# Altium integrated library NEC Microcontroller 8-Bit.IntLib: 15 symbols
Pins are listed as number, name and electrical type; pins without a type are passive.

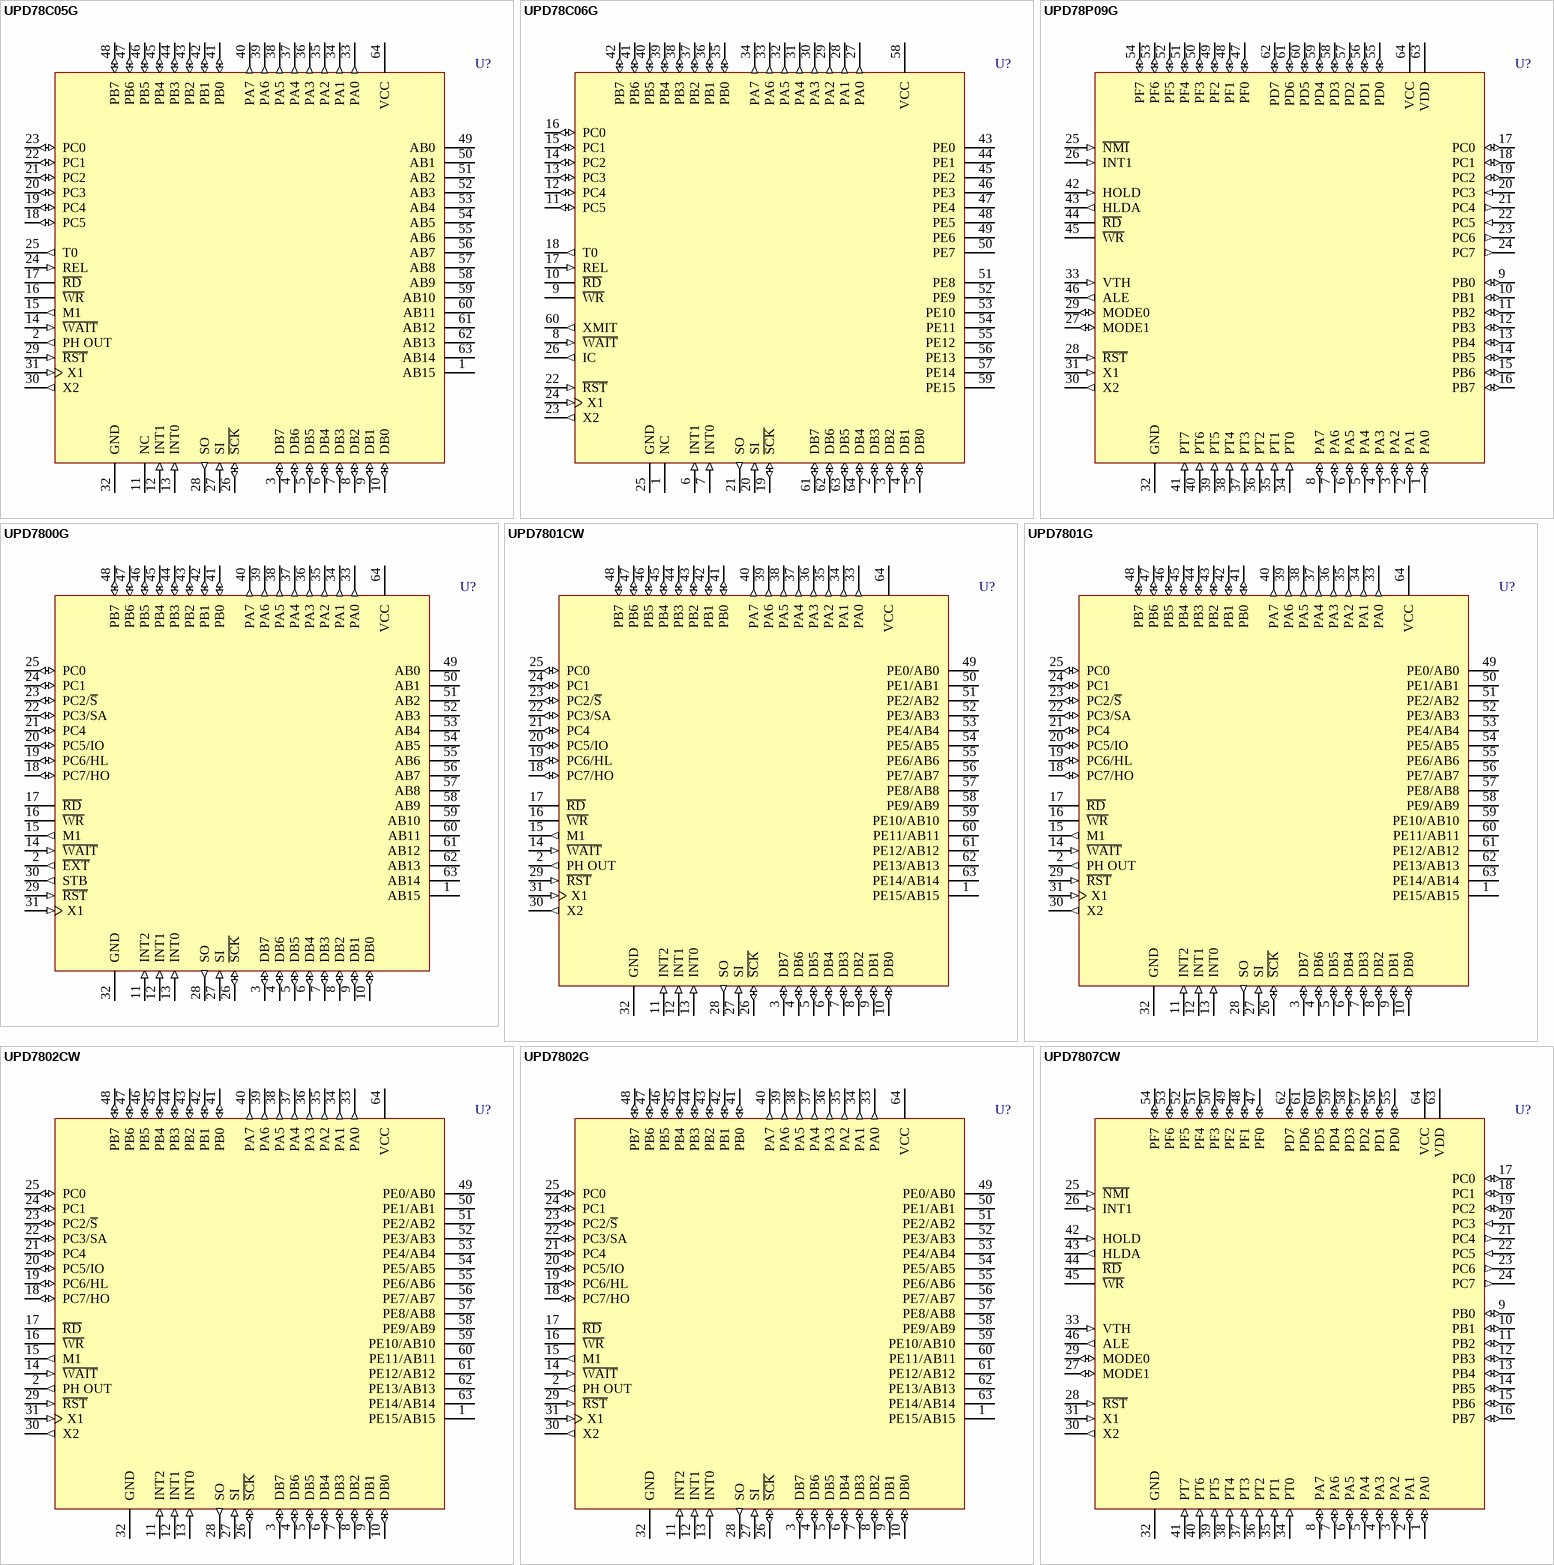
[diagram p0: symbols UPD78C05G to UPD7807CW]

## UPD78C05G
designator U?
CMOS High-End 8-Bit Single-Chip Microcomputer; Published: 8-Jun-2000; LatestRevisionDate: 17-Jul-2002; LatestRevisionNote: Re-released for DXP Platform.; DatasheetVersion: 1984; PackageVersion: 1984; PackageReference: PQUIL64; Publisher: Altium Limited; PackageDescription: QUIP; 64 Leads, in two Staggered Rows, each of 2.54 mm pitch; ComponentLink1Description: Manufacturer Link; ComponentLink1URL: http://www.necel.com/
footprint PQUIL64 (QUIP; 64 Leads, in two Staggered Rows, each of 19.05 mm pitch)
pins: 1 AB15 (hiz), 2 PH OUT (out), 3 DB7 (io), 4 DB6 (io), 5 DB5 (io), 6 DB4 (io), 7 DB3 (io), 8 DB2 (io), 9 DB1 (io), 10 DB0 (io), 11 NC, 12 INT1 (in), 13 INT0 (in), 14 ~{WAIT} (in), 15 M1 (out), 16 ~{WR} (hiz), 17 ~{RD} (hiz), 18 PC5 (io), 19 PC4 (io), 20 PC3 (io), 21 PC2 (io), 22 PC1 (io), 23 PC0 (io), 24 REL (in), 25 T0 (out), 26 ~{SCK} (io), 27 SI (in), 28 SO (out), 29 ~{RST} (in), 30 X2 (out), 31 X1 (in), 32 GND (power), 33 PA0 (out), 34 PA1 (out), 35 PA2 (out), 36 PA3 (out), 37 PA4 (out), 38 PA5 (out), 39 PA6 (out), 40 PA7 (out), 41 PB0 (io), 42 PB1 (io), 43 PB2 (io), 44 PB3 (io), 45 PB4 (io), 46 PB5 (io), 47 PB6 (io), 48 PB7 (io), 49 AB0 (hiz), 50 AB1 (hiz), 51 AB2 (hiz), 52 AB3 (hiz), 53 AB4 (hiz), 54 AB5 (hiz), 55 AB6 (hiz), 56 AB7 (hiz), 57 AB8 (hiz), 58 AB9 (hiz), 59 AB10 (hiz), 60 AB11 (hiz), 61 AB12 (hiz), 62 AB13 (hiz), 63 AB14 (hiz), 64 VCC (power)

## UPD78C06G
designator U?
CMOS High-End 8-Bit Single-Chip Microcomputer; Published: 8-Jun-2000; LatestRevisionDate: 13-Apr-2006; LatestRevisionNote: IPC-7351 Footprint Added.; DatasheetVersion: 1984; PackageVersion: 1983/1984; PackageReference: PMF64; Publisher: Altium Limited; PackageDescription: 64-Pin Quad Flat Pack Rectangular 1 mm Pitch; ComponentLink1Description: Manufacturer Link; ComponentLink1URL: http://www.necel.com/
footprint PMF64_N (QFP, 64-Leads, Body 20x14mm, Pitch 1mm, IPC Medium Density)
footprint PMF64_L (QFP, 64-Leads, Body 20x14mm, Pitch 1mm, IPC High Density)
footprint PMF64_M (QFP, 64-Leads, Body 20x14mm, Pitch 1mm, IPC Low Density)
pins: 1 NC, 2 DB3 (io), 3 DB2 (io), 4 DB1 (io), 5 DB0 (io), 6 INT1 (in), 7 INT0 (in), 8 ~{WAIT} (in), 9 ~{WR} (hiz), 10 ~{RD} (hiz), 11 PC5 (io), 12 PC4 (io), 13 PC3 (io), 14 PC2 (io), 15 PC1 (io), 16 PC0 (io), 17 REL (in), 18 T0 (out), 19 ~{SCK} (io), 20 SI (in), 21 SO (out), 22 ~{RST} (in), 23 X2 (out), 24 X1 (in), 25 GND (power), 26 IC (out), 27 PA0 (out), 28 PA1 (out), 29 PA2 (out), 30 PA3 (out), 31 PA4 (out), 32 PA5 (out), 33 PA6 (out), 34 PA7 (out), 35 PB0 (io), 36 PB1 (io), 37 PB2 (io), 38 PB3 (io), 39 PB4 (io), 40 PB5 (io), 41 PB6 (io), 42 PB7 (io), 43 PE0 (hiz), 44 PE1 (hiz), 45 PE2 (hiz), 46 PE3 (hiz), 47 PE4 (hiz), 48 PE5 (hiz), 49 PE6 (hiz), 50 PE7 (hiz), 51 PE8 (hiz), 52 PE9 (hiz), 53 PE10 (hiz), 54 PE11 (hiz), 55 PE12 (hiz), 56 PE13 (hiz), 57 PE14 (hiz), 58 VCC (power), 59 PE15 (hiz), 60 XMIT (out), 61 DB7 (io), 62 DB6 (io), 63 DB5 (io), 64 DB4 (io)

## UPD78P09G
designator U?
High-End Single-Chip 8-Bit Microcomputer with Comparator, 8K ROM; Note: VDD is backup power terminal for on-chip RAM.; Published: 8-Jun-2000; LatestRevisionDate: 17-Jul-2002; LatestRevisionNote: Re-released for DXP Platform.; DatasheetVersion: 1984; PackageVersion: 1984; PackageReference: PQUIL64; Publisher: Altium Limited; PackageDescription: QUIP; 64 Leads, in two Staggered Rows, each of 2.54 mm pitch; ComponentLink1Description: Manufacturer Link; ComponentLink1URL: http://www.necel.com/
footprint PQUIL64 (QUIP; 64 Leads, in two Staggered Rows, each of 19.05 mm pitch)
pins: 1 PA0 (io), 2 PA1 (io), 3 PA2 (io), 4 PA3 (io), 5 PA4 (io), 6 PA5 (io), 7 PA6 (io), 8 PA7 (io), 9 PB0 (io), 10 PB1 (io), 11 PB2 (io), 12 PB3 (io), 13 PB4 (io), 14 PB5 (io), 15 PB6 (io), 16 PB7 (io), 17 PC0 (io), 18 PC1 (io), 19 PC2 (io), 20 PC3 (in), 21 PC4 (out), 22 PC5 (in), 23 PC6 (out), 24 PC7 (out), 25 ~{NMI} (in), 26 INT1 (in), 27 MODE1 (io), 28 ~{RST} (in), 29 MODE0 (io), 30 X2 (out), 31 X1 (in), 32 GND (power), 33 VTH (in), 34 PT0 (in), 35 PT1 (in), 36 PT2 (in), 37 PT3 (in), 38 PT4 (in), 39 PT5 (in), 40 PT6 (in), 41 PT7 (in), 42 HOLD (in), 43 HLDA (out), 44 ~{RD} (hiz), 45 ~{WR} (hiz), 46 ALE (out), 47 PF0 (io), 48 PF1 (io), 49 PF2 (io), 50 PF3 (io), 51 PF4 (io), 52 PF5 (io), 53 PF6 (io), 54 PF7 (io), 55 PD0 (io), 56 PD1 (io), 57 PD2 (io), 58 PD3 (io), 59 PD4 (io), 60 PD5 (io), 61 PD6 (io), 62 PD7 (io), 63 VDD (power), 64 VCC (power)

## UPD7800G
designator U?
High-End Single-Chip 8-Bit Microcomputer ROM-Less Developement Device; Published: 8-Jun-2000; LatestRevisionDate: 17-Jul-2002; LatestRevisionNote: Re-released for DXP Platform.; DatasheetVersion: 1984; PackageVersion: 1984; PackageReference: PQUIL64; Publisher: Altium Limited; PackageDescription: QUIP; 64 Leads, in two Staggered Rows, each of 2.54 mm pitch; ComponentLink1Description: Manufacturer Link; ComponentLink1URL: http://www.necel.com/
footprint PQUIL64 (QUIP; 64 Leads, in two Staggered Rows, each of 19.05 mm pitch)
pins: 1 AB15 (hiz), 2 ~{EXT} (out), 3 DB7 (io), 4 DB6 (io), 5 DB5 (io), 6 DB4 (io), 7 DB3 (io), 8 DB2 (io), 9 DB1 (io), 10 DB0 (io), 11 INT2 (in), 12 INT1 (in), 13 INT0 (in), 14 ~{WAIT} (in), 15 M1 (out), 16 ~{WR} (hiz), 17 ~{RD} (hiz), 18 PC7/HO (io), 19 PC6/HL (io), 20 PC5/IO (io), 21 PC4 (io), 22 PC3/SA (io), 23 PC2/~{S} (io), 24 PC1 (io), 25 PC0 (io), 26 ~{SCK} (io), 27 SI (in), 28 SO (out), 29 ~{RST} (in), 30 STB (out), 31 X1 (in), 32 GND (power), 33 PA0 (out), 34 PA1 (out), 35 PA2 (out), 36 PA3 (out), 37 PA4 (out), 38 PA5 (out), 39 PA6 (out), 40 PA7 (out), 41 PB0 (io), 42 PB1 (io), 43 PB2 (io), 44 PB3 (io), 45 PB4 (io), 46 PB5 (io), 47 PB6 (io), 48 PB7 (io), 49 AB0 (hiz), 50 AB1 (hiz), 51 AB2 (hiz), 52 AB3 (hiz), 53 AB4 (hiz), 54 AB5 (hiz), 55 AB6 (hiz), 56 AB7 (hiz), 57 AB8 (hiz), 58 AB9 (hiz), 59 AB10 (hiz), 60 AB11 (hiz), 61 AB12 (hiz), 62 AB13 (hiz), 63 AB14 (hiz), 64 VCC (power)

## UPD7801CW
designator U?
High-End Single-Chip 8-Bit Microcomputer with 4K ROM; Published: 8-Jun-2000; LatestRevisionDate: 17-Jul-2002; LatestRevisionNote: Re-released for DXP Platform.; DatasheetVersion: 1984; PackageVersion: 1984; PackageReference: PSDIP64; Publisher: Altium Limited; PackageDescription: DIP; 64 Leads; Row Spacing 19.05 mm; Pitch 1.778 mm; ComponentLink1Description: Manufacturer Link; ComponentLink1URL: http://www.necel.com/
footprint PSDIP64 (DIP; 64 Leads; Row Spacing 19.05 mm; Pitch 1.778 mm)
pins: 1 PE15/AB15 (hiz), 2 PH OUT (out), 3 DB7 (io), 4 DB6 (io), 5 DB5 (io), 6 DB4 (io), 7 DB3 (io), 8 DB2 (io), 9 DB1 (io), 10 DB0 (io), 11 INT2 (in), 12 INT1 (in), 13 INT0 (in), 14 ~{WAIT} (in), 15 M1 (out), 16 ~{WR} (hiz), 17 ~{RD} (hiz), 18 PC7/HO (io), 19 PC6/HL (io), 20 PC5/IO (io), 21 PC4 (io), 22 PC3/SA (io), 23 PC2/~{S} (io), 24 PC1 (io), 25 PC0 (io), 26 ~{SCK} (io), 27 SI (in), 28 SO (out), 29 ~{RST} (in), 30 X2 (out), 31 X1 (in), 32 GND (power), 33 PA0 (out), 34 PA1 (out), 35 PA2 (out), 36 PA3 (out), 37 PA4 (out), 38 PA5 (out), 39 PA6 (out), 40 PA7 (out), 41 PB0 (io), 42 PB1 (io), 43 PB2 (io), 44 PB3 (io), 45 PB4 (io), 46 PB5 (io), 47 PB6 (io), 48 PB7 (io), 49 PE0/AB0 (hiz), 50 PE1/AB1 (hiz), 51 PE2/AB2 (hiz), 52 PE3/AB3 (hiz), 53 PE4/AB4 (hiz), 54 PE5/AB5 (hiz), 55 PE6/AB6 (hiz), 56 PE7/AB7 (hiz), 57 PE8/AB8 (hiz), 58 PE9/AB9 (hiz), 59 PE10/AB10 (hiz), 60 PE11/AB11 (hiz), 61 PE12/AB12 (hiz), 62 PE13/AB13 (hiz), 63 PE14/AB14 (hiz), 64 VCC (power)

## UPD7801G
designator U?
High-End Single-Chip 8-Bit Microcomputer with 4K ROM; Published: 8-Jun-2000; LatestRevisionDate: 17-Jul-2002; LatestRevisionNote: Re-released for DXP Platform.; DatasheetVersion: 1984; PackageVersion: 1984; PackageReference: PQUIL64; Publisher: Altium Limited; PackageDescription: QUIP; 64 Leads, in two Staggered Rows, each of 2.54 mm pitch; ComponentLink1Description: Manufacturer Link; ComponentLink1URL: http://www.necel.com/
footprint PQUIL64 (QUIP; 64 Leads, in two Staggered Rows, each of 19.05 mm pitch)
pins: 1 PE15/AB15 (hiz), 2 PH OUT (out), 3 DB7 (io), 4 DB6 (io), 5 DB5 (io), 6 DB4 (io), 7 DB3 (io), 8 DB2 (io), 9 DB1 (io), 10 DB0 (io), 11 INT2 (in), 12 INT1 (in), 13 INT0 (in), 14 ~{WAIT} (in), 15 M1 (out), 16 ~{WR} (hiz), 17 ~{RD} (hiz), 18 PC7/HO (io), 19 PC6/HL (io), 20 PC5/IO (io), 21 PC4 (io), 22 PC3/SA (io), 23 PC2/~{S} (io), 24 PC1 (io), 25 PC0 (io), 26 ~{SCK} (io), 27 SI (in), 28 SO (out), 29 ~{RST} (in), 30 X2 (out), 31 X1 (in), 32 GND (power), 33 PA0 (out), 34 PA1 (out), 35 PA2 (out), 36 PA3 (out), 37 PA4 (out), 38 PA5 (out), 39 PA6 (out), 40 PA7 (out), 41 PB0 (io), 42 PB1 (io), 43 PB2 (io), 44 PB3 (io), 45 PB4 (io), 46 PB5 (io), 47 PB6 (io), 48 PB7 (io), 49 PE0/AB0 (hiz), 50 PE1/AB1 (hiz), 51 PE2/AB2 (hiz), 52 PE3/AB3 (hiz), 53 PE4/AB4 (hiz), 54 PE5/AB5 (hiz), 55 PE6/AB6 (hiz), 56 PE7/AB7 (hiz), 57 PE8/AB8 (hiz), 58 PE9/AB9 (hiz), 59 PE10/AB10 (hiz), 60 PE11/AB11 (hiz), 61 PE12/AB12 (hiz), 62 PE13/AB13 (hiz), 63 PE14/AB14 (hiz), 64 VCC (power)

## UPD7802CW
designator U?
High-End Single-Chip 8-Bit Microcomputer with 4K ROM; Published: 8-Jun-2000; LatestRevisionDate: 17-Jul-2002; LatestRevisionNote: Re-released for DXP Platform.; DatasheetVersion: 1984; PackageVersion: 1984; PackageReference: PSDIP64; Publisher: Altium Limited; PackageDescription: DIP; 64 Leads; Row Spacing 19.05 mm; Pitch 1.778 mm; ComponentLink1Description: Manufacturer Link; ComponentLink1URL: http://www.necel.com/
footprint PSDIP64 (DIP; 64 Leads; Row Spacing 19.05 mm; Pitch 1.778 mm)
pins: 1 PE15/AB15 (hiz), 2 PH OUT (out), 3 DB7 (io), 4 DB6 (io), 5 DB5 (io), 6 DB4 (io), 7 DB3 (io), 8 DB2 (io), 9 DB1 (io), 10 DB0 (io), 11 INT2 (in), 12 INT1 (in), 13 INT0 (in), 14 ~{WAIT} (in), 15 M1 (out), 16 ~{WR} (hiz), 17 ~{RD} (hiz), 18 PC7/HO (io), 19 PC6/HL (io), 20 PC5/IO (io), 21 PC4 (io), 22 PC3/SA (io), 23 PC2/~{S} (io), 24 PC1 (io), 25 PC0 (io), 26 ~{SCK} (io), 27 SI (in), 28 SO (out), 29 ~{RST} (in), 30 X2 (out), 31 X1 (in), 32 GND (power), 33 PA0 (out), 34 PA1 (out), 35 PA2 (out), 36 PA3 (out), 37 PA4 (out), 38 PA5 (out), 39 PA6 (out), 40 PA7 (out), 41 PB0 (io), 42 PB1 (io), 43 PB2 (io), 44 PB3 (io), 45 PB4 (io), 46 PB5 (io), 47 PB6 (io), 48 PB7 (io), 49 PE0/AB0 (hiz), 50 PE1/AB1 (hiz), 51 PE2/AB2 (hiz), 52 PE3/AB3 (hiz), 53 PE4/AB4 (hiz), 54 PE5/AB5 (hiz), 55 PE6/AB6 (hiz), 56 PE7/AB7 (hiz), 57 PE8/AB8 (hiz), 58 PE9/AB9 (hiz), 59 PE10/AB10 (hiz), 60 PE11/AB11 (hiz), 61 PE12/AB12 (hiz), 62 PE13/AB13 (hiz), 63 PE14/AB14 (hiz), 64 VCC (power)

## UPD7802G
designator U?
High-End Single-Chip 8-Bit Microcomputer with 4K ROM; Published: 8-Jun-2000; LatestRevisionDate: 17-Jul-2002; LatestRevisionNote: Re-released for DXP Platform.; DatasheetVersion: 1984; PackageVersion: 1984; PackageReference: PQUIL64; Publisher: Altium Limited; PackageDescription: QUIP; 64 Leads, in two Staggered Rows, each of 2.54 mm pitch; ComponentLink1Description: Manufacturer Link; ComponentLink1URL: http://www.necel.com/
footprint PQUIL64 (QUIP; 64 Leads, in two Staggered Rows, each of 19.05 mm pitch)
pins: 1 PE15/AB15 (hiz), 2 PH OUT (out), 3 DB7 (io), 4 DB6 (io), 5 DB5 (io), 6 DB4 (io), 7 DB3 (io), 8 DB2 (io), 9 DB1 (io), 10 DB0 (io), 11 INT2 (in), 12 INT1 (in), 13 INT0 (in), 14 ~{WAIT} (in), 15 M1 (out), 16 ~{WR} (hiz), 17 ~{RD} (hiz), 18 PC7/HO (io), 19 PC6/HL (io), 20 PC5/IO (io), 21 PC4 (io), 22 PC3/SA (io), 23 PC2/~{S} (io), 24 PC1 (io), 25 PC0 (io), 26 ~{SCK} (io), 27 SI (in), 28 SO (out), 29 ~{RST} (in), 30 X2 (out), 31 X1 (in), 32 GND (power), 33 PA0 (out), 34 PA1 (out), 35 PA2 (out), 36 PA3 (out), 37 PA4 (out), 38 PA5 (out), 39 PA6 (out), 40 PA7 (out), 41 PB0 (io), 42 PB1 (io), 43 PB2 (io), 44 PB3 (io), 45 PB4 (io), 46 PB5 (io), 47 PB6 (io), 48 PB7 (io), 49 PE0/AB0 (hiz), 50 PE1/AB1 (hiz), 51 PE2/AB2 (hiz), 52 PE3/AB3 (hiz), 53 PE4/AB4 (hiz), 54 PE5/AB5 (hiz), 55 PE6/AB6 (hiz), 56 PE7/AB7 (hiz), 57 PE8/AB8 (hiz), 58 PE9/AB9 (hiz), 59 PE10/AB10 (hiz), 60 PE11/AB11 (hiz), 61 PE12/AB12 (hiz), 62 PE13/AB13 (hiz), 63 PE14/AB14 (hiz), 64 VCC (power)

## UPD7807CW
designator U?
High-End Single-Chip 8-Bit Microcomputer with Comparator, 8K ROM; Note: VDD is backup power terminal for on-chip RAM.; Published: 8-Jun-2000; LatestRevisionDate: 17-Jul-2002; LatestRevisionNote: Re-released for DXP Platform.; DatasheetVersion: 1984; PackageVersion: 1984; PackageReference: PSDIP64; Publisher: Altium Limited; PackageDescription: DIP; 64 Leads; Row Spacing 19.05 mm; Pitch 1.778 mm; ComponentLink1Description: Manufacturer Link; ComponentLink1URL: http://www.necel.com/
footprint PSDIP64 (DIP; 64 Leads; Row Spacing 19.05 mm; Pitch 1.778 mm)
pins: 1 PA0 (io), 2 PA1 (io), 3 PA2 (io), 4 PA3 (io), 5 PA4 (io), 6 PA5 (io), 7 PA6 (io), 8 PA7 (io), 9 PB0 (io), 10 PB1 (io), 11 PB2 (io), 12 PB3 (io), 13 PB4 (io), 14 PB5 (io), 15 PB6 (io), 16 PB7 (io), 17 PC0 (io), 18 PC1 (io), 19 PC2 (io), 20 PC3 (in), 21 PC4 (out), 22 PC5 (in), 23 PC6 (out), 24 PC7 (out), 25 ~{NMI} (in), 26 INT1 (in), 27 MODE1 (io), 28 ~{RST} (in), 29 MODE0 (io), 30 X2 (out), 31 X1 (in), 32 GND (power), 33 VTH (in), 34 PT0 (in), 35 PT1 (in), 36 PT2 (in), 37 PT3 (in), 38 PT4 (in), 39 PT5 (in), 40 PT6 (in), 41 PT7 (in), 42 HOLD (in), 43 HLDA (out), 44 ~{RD} (hiz), 45 ~{WR} (hiz), 46 ALE (out), 47 PF0 (io), 48 PF1 (io), 49 PF2 (io), 50 PF3 (io), 51 PF4 (io), 52 PF5 (io), 53 PF6 (io), 54 PF7 (io), 55 PD0 (io), 56 PD1 (io), 57 PD2 (io), 58 PD3 (io), 59 PD4 (io), 60 PD5 (io), 61 PD6 (io), 62 PD7 (io), 63 VDD (power), 64 VCC (power)

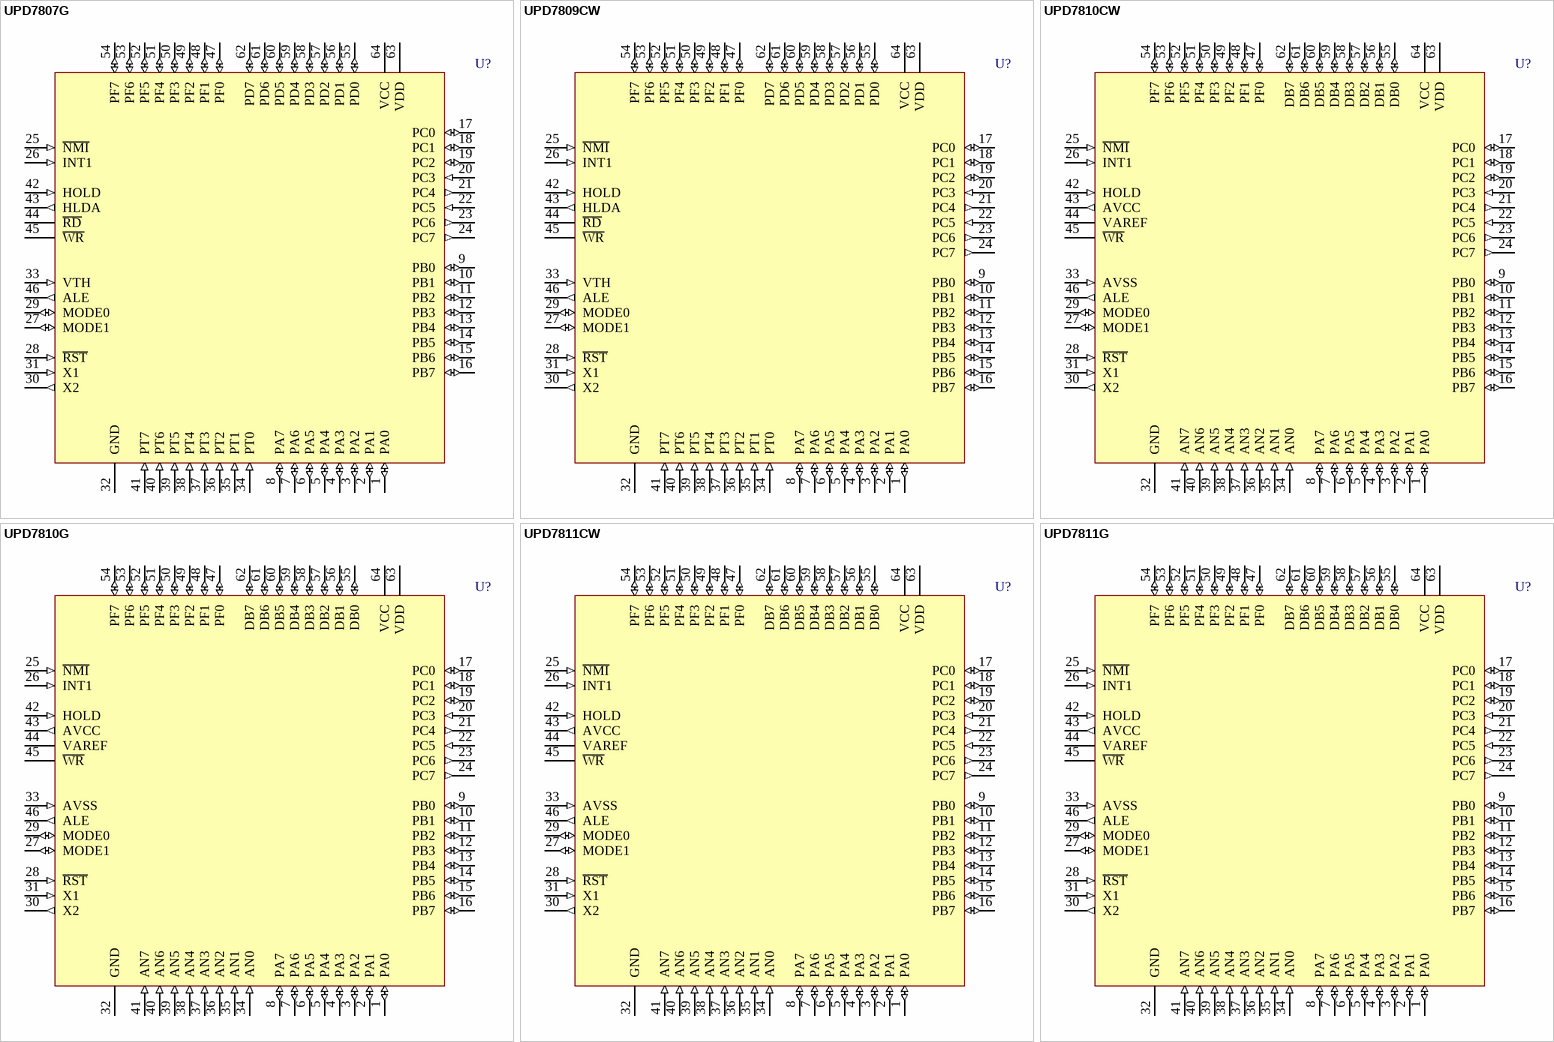
[diagram p1: symbols UPD7807G to UPD7811G]

## UPD7807G
designator U?
High-End Single-Chip 8-Bit Microcomputer with Comparator, 8K ROM; Note: VDD is backup power terminal for on-chip RAM.; Published: 8-Jun-2000; LatestRevisionDate: 17-Jul-2002; LatestRevisionNote: Re-released for DXP Platform.; DatasheetVersion: 1984; PackageVersion: 1984; PackageReference: PQUIL64; Publisher: Altium Limited; PackageDescription: QUIP; 64 Leads, in two Staggered Rows, each of 2.54 mm pitch; ComponentLink1Description: Manufacturer Link; ComponentLink1URL: http://www.necel.com/
footprint PQUIL64 (QUIP; 64 Leads, in two Staggered Rows, each of 19.05 mm pitch)
pins: 1 PA0 (io), 2 PA1 (io), 3 PA2 (io), 4 PA3 (io), 5 PA4 (io), 6 PA5 (io), 7 PA6 (io), 8 PA7 (io), 9 PB0 (io), 10 PB1 (io), 11 PB2 (io), 12 PB3 (io), 13 PB4 (io), 14 PB5 (io), 15 PB6 (io), 16 PB7 (io), 17 PC0 (io), 18 PC1 (io), 19 PC2 (io), 20 PC3 (in), 21 PC4 (out), 22 PC5 (in), 23 PC6 (out), 24 PC7 (out), 25 ~{NMI} (in), 26 INT1 (in), 27 MODE1 (io), 28 ~{RST} (in), 29 MODE0 (io), 30 X2 (out), 31 X1 (in), 32 GND (power), 33 VTH (in), 34 PT0 (in), 35 PT1 (in), 36 PT2 (in), 37 PT3 (in), 38 PT4 (in), 39 PT5 (in), 40 PT6 (in), 41 PT7 (in), 42 HOLD (in), 43 HLDA (out), 44 ~{RD} (hiz), 45 ~{WR} (hiz), 46 ALE (out), 47 PF0 (io), 48 PF1 (io), 49 PF2 (io), 50 PF3 (io), 51 PF4 (io), 52 PF5 (io), 53 PF6 (io), 54 PF7 (io), 55 PD0 (io), 56 PD1 (io), 57 PD2 (io), 58 PD3 (io), 59 PD4 (io), 60 PD5 (io), 61 PD6 (io), 62 PD7 (io), 63 VDD (power), 64 VCC (power)

## UPD7809CW
designator U?
High-End Single-Chip 8-Bit Microcomputer with Comparator, 8K ROM; Note: VDD is backup power terminal for on-chip RAM.; Published: 8-Jun-2000; LatestRevisionDate: 17-Jul-2002; LatestRevisionNote: Re-released for DXP Platform.; DatasheetVersion: 1984; PackageVersion: 1984; PackageReference: PSDIP64; Publisher: Altium Limited; PackageDescription: DIP; 64 Leads; Row Spacing 19.05 mm; Pitch 1.778 mm; ComponentLink1Description: Manufacturer Link; ComponentLink1URL: http://www.necel.com/
footprint PSDIP64 (DIP; 64 Leads; Row Spacing 19.05 mm; Pitch 1.778 mm)
pins: 1 PA0 (io), 2 PA1 (io), 3 PA2 (io), 4 PA3 (io), 5 PA4 (io), 6 PA5 (io), 7 PA6 (io), 8 PA7 (io), 9 PB0 (io), 10 PB1 (io), 11 PB2 (io), 12 PB3 (io), 13 PB4 (io), 14 PB5 (io), 15 PB6 (io), 16 PB7 (io), 17 PC0 (io), 18 PC1 (io), 19 PC2 (io), 20 PC3 (in), 21 PC4 (out), 22 PC5 (in), 23 PC6 (out), 24 PC7 (out), 25 ~{NMI} (in), 26 INT1 (in), 27 MODE1 (io), 28 ~{RST} (in), 29 MODE0 (io), 30 X2 (out), 31 X1 (in), 32 GND (power), 33 VTH (in), 34 PT0 (in), 35 PT1 (in), 36 PT2 (in), 37 PT3 (in), 38 PT4 (in), 39 PT5 (in), 40 PT6 (in), 41 PT7 (in), 42 HOLD (in), 43 HLDA (out), 44 ~{RD} (hiz), 45 ~{WR} (hiz), 46 ALE (out), 47 PF0 (io), 48 PF1 (io), 49 PF2 (io), 50 PF3 (io), 51 PF4 (io), 52 PF5 (io), 53 PF6 (io), 54 PF7 (io), 55 PD0 (io), 56 PD1 (io), 57 PD2 (io), 58 PD3 (io), 59 PD4 (io), 60 PD5 (io), 61 PD6 (io), 62 PD7 (io), 63 VDD (power), 64 VCC (power)

## UPD7810CW
designator U?
High-End Single-Chip 8-Bit Microcomputer with A/D Converter; Note: VDD is backup power terminal for on-chip RAM.; Published: 8-Jun-2000; LatestRevisionDate: 17-Jul-2002; LatestRevisionNote: Re-released for DXP Platform.; DatasheetVersion: 1984; PackageVersion: 1984; PackageReference: PSDIP64; Publisher: Altium Limited; PackageDescription: DIP; 64 Leads; Row Spacing 19.05 mm; Pitch 1.778 mm; ComponentLink1Description: Manufacturer Link; ComponentLink1URL: http://www.necel.com/
footprint PSDIP64 (DIP; 64 Leads; Row Spacing 19.05 mm; Pitch 1.778 mm)
pins: 1 PA0 (io), 2 PA1 (io), 3 PA2 (io), 4 PA3 (io), 5 PA4 (io), 6 PA5 (io), 7 PA6 (io), 8 PA7 (io), 9 PB0 (io), 10 PB1 (io), 11 PB2 (io), 12 PB3 (io), 13 PB4 (io), 14 PB5 (io), 15 PB6 (io), 16 PB7 (io), 17 PC0 (io), 18 PC1 (io), 19 PC2 (io), 20 PC3 (in), 21 PC4 (out), 22 PC5 (in), 23 PC6 (out), 24 PC7 (out), 25 ~{NMI} (in), 26 INT1 (in), 27 MODE1 (io), 28 ~{RST} (in), 29 MODE0 (io), 30 X2 (out), 31 X1 (in), 32 GND (power), 33 AVSS (in), 34 AN0 (in), 35 AN1 (in), 36 AN2 (in), 37 AN3 (in), 38 AN4 (in), 39 AN5 (in), 40 AN6 (in), 41 AN7 (in), 42 HOLD (in), 43 AVCC (out), 44 VAREF (hiz), 45 ~{WR} (hiz), 46 ALE (out), 47 PF0 (io), 48 PF1 (io), 49 PF2 (io), 50 PF3 (io), 51 PF4 (io), 52 PF5 (io), 53 PF6 (io), 54 PF7 (io), 55 DB0 (io), 56 DB1 (io), 57 DB2 (io), 58 DB3 (io), 59 DB4 (io), 60 DB5 (io), 61 DB6 (io), 62 DB7 (io), 63 VDD (power), 64 VCC (power)

## UPD7810G
designator U?
High-End Single-Chip 8-Bit Microcomputer with A/D Converter; Note: VDD is backup power terminal for on-chip RAM.; Published: 8-Jun-2000; LatestRevisionDate: 17-Jul-2002; LatestRevisionNote: Re-released for DXP Platform.; DatasheetVersion: 1984; PackageVersion: 1984; PackageReference: PQUIL64; Publisher: Altium Limited; PackageDescription: QUIP; 64 Leads, in two Staggered Rows, each of 2.54 mm pitch; ComponentLink1Description: Manufacturer Link; ComponentLink1URL: http://www.necel.com/
footprint PQUIL64 (QUIP; 64 Leads, in two Staggered Rows, each of 19.05 mm pitch)
pins: 1 PA0 (io), 2 PA1 (io), 3 PA2 (io), 4 PA3 (io), 5 PA4 (io), 6 PA5 (io), 7 PA6 (io), 8 PA7 (io), 9 PB0 (io), 10 PB1 (io), 11 PB2 (io), 12 PB3 (io), 13 PB4 (io), 14 PB5 (io), 15 PB6 (io), 16 PB7 (io), 17 PC0 (io), 18 PC1 (io), 19 PC2 (io), 20 PC3 (in), 21 PC4 (out), 22 PC5 (in), 23 PC6 (out), 24 PC7 (out), 25 ~{NMI} (in), 26 INT1 (in), 27 MODE1 (io), 28 ~{RST} (in), 29 MODE0 (io), 30 X2 (out), 31 X1 (in), 32 GND (power), 33 AVSS (in), 34 AN0 (in), 35 AN1 (in), 36 AN2 (in), 37 AN3 (in), 38 AN4 (in), 39 AN5 (in), 40 AN6 (in), 41 AN7 (in), 42 HOLD (in), 43 AVCC (out), 44 VAREF (hiz), 45 ~{WR} (hiz), 46 ALE (out), 47 PF0 (io), 48 PF1 (io), 49 PF2 (io), 50 PF3 (io), 51 PF4 (io), 52 PF5 (io), 53 PF6 (io), 54 PF7 (io), 55 DB0 (io), 56 DB1 (io), 57 DB2 (io), 58 DB3 (io), 59 DB4 (io), 60 DB5 (io), 61 DB6 (io), 62 DB7 (io), 63 VDD (power), 64 VCC (power)

## UPD7811CW
designator U?
High-End Single-Chip 8-Bit Microcomputer with A/D Converter; Note: VDD is backup power terminal for on-chip RAM.; Published: 8-Jun-2000; LatestRevisionDate: 17-Jul-2002; LatestRevisionNote: Re-released for DXP Platform.; DatasheetVersion: 1984; PackageVersion: 1984; PackageReference: PSDIP64; Publisher: Altium Limited; PackageDescription: DIP; 64 Leads; Row Spacing 19.05 mm; Pitch 1.778 mm; ComponentLink1Description: Manufacturer Link; ComponentLink1URL: http://www.necel.com/
footprint PSDIP64 (DIP; 64 Leads; Row Spacing 19.05 mm; Pitch 1.778 mm)
pins: 1 PA0 (io), 2 PA1 (io), 3 PA2 (io), 4 PA3 (io), 5 PA4 (io), 6 PA5 (io), 7 PA6 (io), 8 PA7 (io), 9 PB0 (io), 10 PB1 (io), 11 PB2 (io), 12 PB3 (io), 13 PB4 (io), 14 PB5 (io), 15 PB6 (io), 16 PB7 (io), 17 PC0 (io), 18 PC1 (io), 19 PC2 (io), 20 PC3 (in), 21 PC4 (out), 22 PC5 (in), 23 PC6 (out), 24 PC7 (out), 25 ~{NMI} (in), 26 INT1 (in), 27 MODE1 (io), 28 ~{RST} (in), 29 MODE0 (io), 30 X2 (out), 31 X1 (in), 32 GND (power), 33 AVSS (in), 34 AN0 (in), 35 AN1 (in), 36 AN2 (in), 37 AN3 (in), 38 AN4 (in), 39 AN5 (in), 40 AN6 (in), 41 AN7 (in), 42 HOLD (in), 43 AVCC (out), 44 VAREF (hiz), 45 ~{WR} (hiz), 46 ALE (out), 47 PF0 (io), 48 PF1 (io), 49 PF2 (io), 50 PF3 (io), 51 PF4 (io), 52 PF5 (io), 53 PF6 (io), 54 PF7 (io), 55 DB0 (io), 56 DB1 (io), 57 DB2 (io), 58 DB3 (io), 59 DB4 (io), 60 DB5 (io), 61 DB6 (io), 62 DB7 (io), 63 VDD (power), 64 VCC (power)

## UPD7811G
designator U?
High-End Single-Chip 8-Bit Microcomputer with A/D Converter; Note: VDD is backup power terminal for on-chip RAM.; Published: 8-Jun-2000; LatestRevisionDate: 17-Jul-2002; LatestRevisionNote: Re-released for DXP Platform.; DatasheetVersion: 1984; PackageVersion: 1984; PackageReference: PQUIL64; Publisher: Altium Limited; PackageDescription: QUIP; 64 Leads, in two Staggered Rows, each of 2.54 mm pitch; ComponentLink1Description: Manufacturer Link; ComponentLink1URL: http://www.necel.com/
footprint PQUIL64 (QUIP; 64 Leads, in two Staggered Rows, each of 19.05 mm pitch)
pins: 1 PA0 (io), 2 PA1 (io), 3 PA2 (io), 4 PA3 (io), 5 PA4 (io), 6 PA5 (io), 7 PA6 (io), 8 PA7 (io), 9 PB0 (io), 10 PB1 (io), 11 PB2 (io), 12 PB3 (io), 13 PB4 (io), 14 PB5 (io), 15 PB6 (io), 16 PB7 (io), 17 PC0 (io), 18 PC1 (io), 19 PC2 (io), 20 PC3 (in), 21 PC4 (out), 22 PC5 (in), 23 PC6 (out), 24 PC7 (out), 25 ~{NMI} (in), 26 INT1 (in), 27 MODE1 (io), 28 ~{RST} (in), 29 MODE0 (io), 30 X2 (out), 31 X1 (in), 32 GND (power), 33 AVSS (in), 34 AN0 (in), 35 AN1 (in), 36 AN2 (in), 37 AN3 (in), 38 AN4 (in), 39 AN5 (in), 40 AN6 (in), 41 AN7 (in), 42 HOLD (in), 43 AVCC (out), 44 VAREF (hiz), 45 ~{WR} (hiz), 46 ALE (out), 47 PF0 (io), 48 PF1 (io), 49 PF2 (io), 50 PF3 (io), 51 PF4 (io), 52 PF5 (io), 53 PF6 (io), 54 PF7 (io), 55 DB0 (io), 56 DB1 (io), 57 DB2 (io), 58 DB3 (io), 59 DB4 (io), 60 DB5 (io), 61 DB6 (io), 62 DB7 (io), 63 VDD (power), 64 VCC (power)